# EAGLE library part M24M02-DR (library m_ic-other)
The M24M02-DR is a 2 Mbit I²C-compatible EEPROM (Electrically Erasable PROgrammable Memory) organized as 256 K × 8 bits. The M24M02-DR can operate with a supply voltage from 1.8 V to 5.5 V, over an ambient temperature range of –40 °C / +85 °C. The M24M02-DR offers an additional page, named the Identification Page (256 byte). The Identification Page can be used to store se nsitive application parameters which can be (later) permanently locked in Read-only mode. See http://www.mouser.com/ds/2/389/CD00290537-470808.pdf
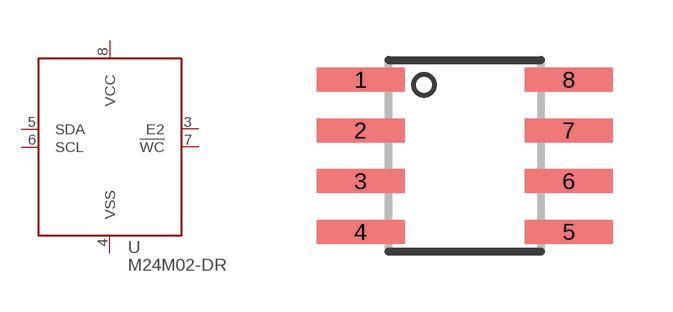
[diagram p4: symbol with the pads of SO08; footprint SO08]

Designator prefix U

## M24M02-DRSO8 (MANUF: ST; PARTNUM: M24M02-DR?)  [SO08]
3  E2
4  VSS
5  SDA
6  SCL
7  !WC
8  VCC

## Footprint SO08 (pad centres in mm)
Small Outline Package 8 NS Package M08A
smd 2.2 x 0.6: 1 -2.604,1.905; 2 -2.604,0.635; 3 -2.604,-0.635; 4 -2.604,-1.905; 5 2.604,-1.905; 6 2.604,-0.635; 7 2.604,0.635; 8 2.604,1.905